# Altium footprint library EMG_Service_C2B.PcbLib: 4 footprints
Each footprint in its own frame and in the unit in brackets; x right, y up, seen from the top. Pads: shape width x height; smd on the part's side, far side on the other; paste and mask are expansions set on the pad; w line width, h text height; cw(c..) or ccw(c..) is an arc to the next point about the centre after c.
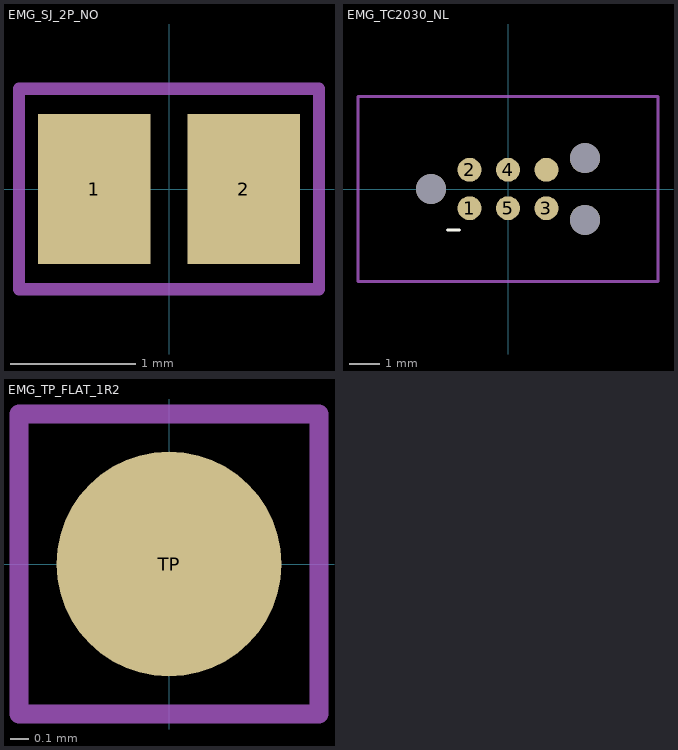
[diagram p0: the footprints below, top view; thin cyan lines are the x and y axes]

## EMG_SJ_2P_NO [mm] "Normally-open 2-pad solder jumper, 0.3 mm gap (no paste via rule)"
pads (2):
  rect 0.9x1.2 smd: 1(-0.6,0) 2(0.6,0)
Mechanical 15:
  lines w0.1: -1.2,-0.8 -1.2,0.8 1.2,0.8 1.2,-0.8 -1.2,-0.8

## EMG_TC2030_NL [mil] "Tag-Connect TC2030-NL plug-of-nails footprint (DNL, no paste via rule); J_SWD pins at TC2030-CTX positions"
pads (9):
  round 30.98 smd: 1(-50,-25) 2(-50,25) 3(50,-25) 4(0,25) 5(0,-25) ""(50,25)
  round 39.02 hole 39.02 unplated: ""(-100,0) ""(100,-40) ""(100,40)
Top Overlay:
  lines w3.94: -78.74,-53.15 -62.99,-53.15
Mechanical 15:
  lines w3.94: -195,-120 -195,120 195,120 195,-120 -195,-120

## EMG_TP_FLAT_1R2 [mm] "Flat 1.2 mm probe pad (no paste via rule)"
pads (1):
  round 1.2 smd: TP(0,0)
Mechanical 15:
  lines w0.1: -0.8,-0.8 -0.8,0.8 0.8,0.8 0.8,-0.8 -0.8,-0.8

## PCBComponent_1 [mil]